# EAGLE library part ECAM50_5642_MOD (library biomimetic)
e-con Systems 5MP AF camera module Digi-Key P/N is for the appropriate mating connector.
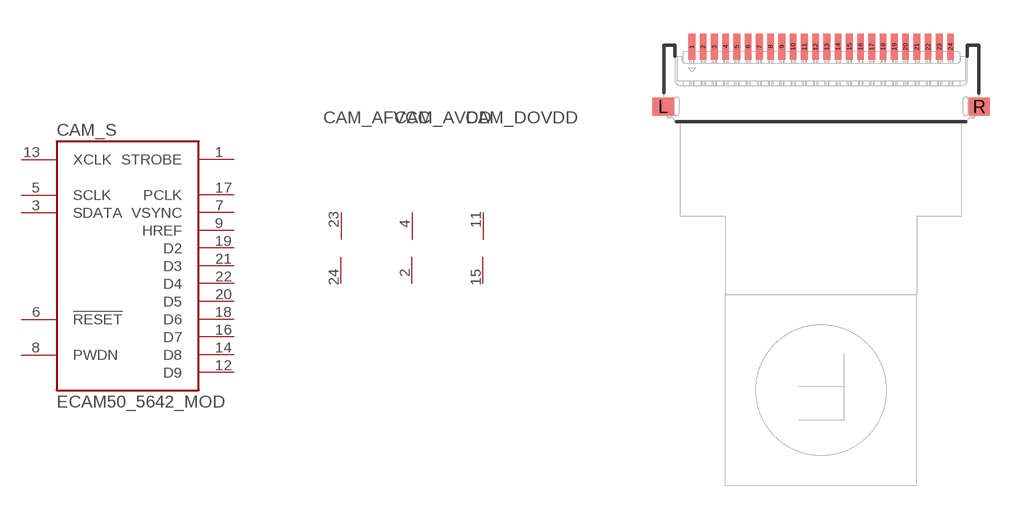
[diagram p18: symbol with the pads of XF2W-2415-1A; footprint XF2W-2415-1A]

Designator prefix CAM; gates _S=ECAM50_5642_MOD _AFVCC=V+- _AVDD=V+- _DOVDD=V+-

## ECAM50_5642_MOD (DIGIKEY: OR877CT-ND)  [XF2W-2415-1A]
1  _S:STROBE
2  _AVDD:V-  pwr
3  _S:SDATA
4  _AVDD:V+  pwr
5  _S:SCLK  in
6  _S:!RESET  in
7  _S:VSYNC  in
8  _S:PWDN  in
9  _S:HREF  in
11  _DOVDD:V+  pwr
12  _S:D9  out
13  _S:XCLK  in
14  _S:D8  out
15  _DOVDD:V-  pwr
16  _S:D7  out
17  _S:PCLK  out
18  _S:D6  out
19  _S:D2  out
20  _S:D5  out
21  _S:D3  out
22  _S:D4  out
23  _AFVCC:V+  pwr
24  _AFVCC:V-  pwr

## Footprint XF2W-2415-1A (pad centres in mm)
smd 0.3 x 1.15: 1 -5.75,1.625; 2 -5.25,1.625; 3 -4.75,1.625; 4 -4.25,1.625; 5 -3.75,1.625; 6 -3.25,1.625; 7 -2.75,1.625; 8 -2.25,1.625; 9 -1.75,1.625; 10 -1.25,1.625; 11 -0.75,1.625; 12 -0.25,1.625; 13 0.25,1.625; 14 0.75,1.625; 15 1.25,1.625; 16 1.75,1.625; 17 2.25,1.625; 18 2.75,1.625; 19 3.25,1.625; 20 3.75,1.625; 21 4.25,1.625; 22 4.75,1.625; 23 5.25,1.625; 24 5.75,1.625
smd 0.95 x 0.8: L -7.025,-1.05; R 7.025,-1.05